# Altium footprint library M22-7131042.PcbLib: 1 footprints
Each footprint in its own frame and in the unit in brackets; x right, y up, seen from the top. Pads: shape width x height; smd on the part's side, far side on the other; paste and mask are expansions set on the pad; w line width, h text height; cw(c..) or ccw(c..) is an arc to the next point about the centre after c.
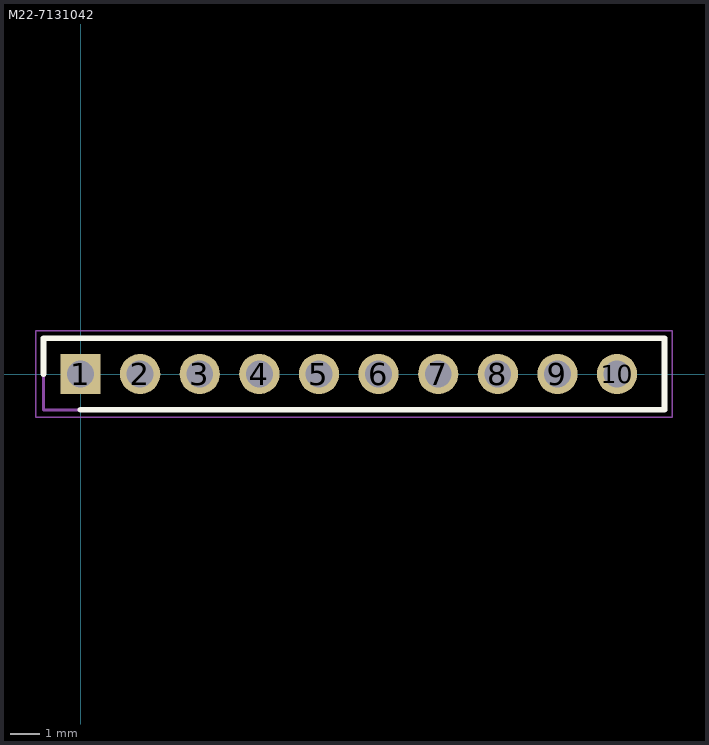
[diagram p0: the footprint, top view; thin cyan lines are the x and y axes]

## M22-7131042 [mm]
pads (10):
  rect 1.35x1.35 hole 0.9: 1(0,0)
  round 1.35 hole 0.9: 2(2,0) 3(4,0) 4(6,0) 5(8,0) 6(10,0) 7(12,0) 8(14,0) 9(16,0) 10(18,0)
Top Overlay:
  lines w0.2: -1.25,0 -1.25,1.2 19.6,1.2 19.6,-1.2 0,-1.2
Mechanical 15:
  lines w0.1: -1.25,-1.2 -1.25,1.2 19.6,1.2 19.6,-1.2 -1.25,-1.2
Mechanical 20:
  lines w0.05: -1.5,-1.45 -1.5,1.45 19.85,1.45 19.85,-1.45 -1.5,-1.45